# EAGLE library part LP28013A (library ruark2)
TDFN-10 Battery Management ICs ROHS JLCPCB: C517139
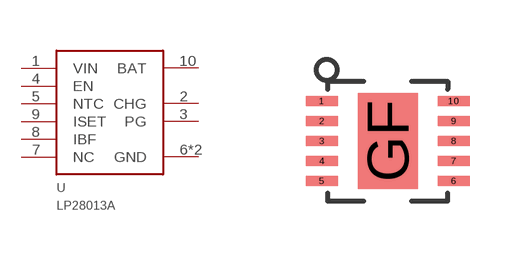
[diagram p190: symbol with the pads of 10DFN; footprint 10DFN]

Designator prefix U

## LP28013A  [10DFN]
1  VIN
2  CHG
3  PG
4  EN
5  NTC
6  GND
7  NC
8  IBF
9  ISET
10  BAT
GF  GND

## Footprint 10DFN (pad centres in mm)
smd 0.8 x 0.24: 1 -1.65,1; 2 -1.65,0.5; 3 -1.65,0; 4 -1.65,-0.5; 5 -1.65,-1; 6 1.65,-1; 7 1.65,-0.5; 8 1.65,0; 9 1.65,0.5; 10 1.65,1
smd 1.5 x 2.4: GF 0,0